# Altium footprint library LED_PcbLib1.PcbLib: 3 footprints
Each footprint in its own frame and in the unit in brackets; x right, y up, seen from the top. Pads: shape width x height; smd on the part's side, far side on the other; paste and mask are expansions set on the pad; w line width, h text height; cw(c..) or ccw(c..) is an arc to the next point about the centre after c.
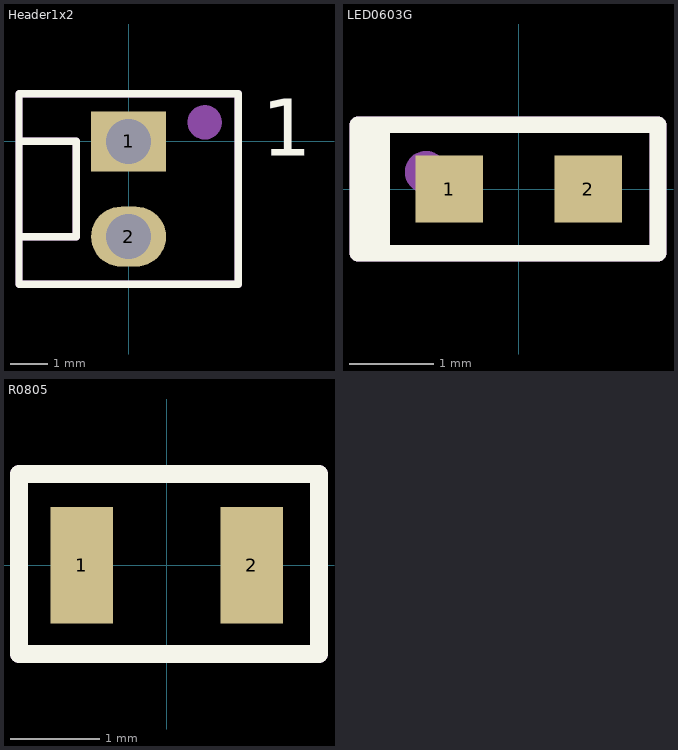
[diagram p0: the footprints below, top view; thin cyan lines are the x and y axes]

## Header1x2 [mm]
pads (2):
  rect 2x1.6 hole 1.2: 1(0,0)
  oval 2x1.6 hole 1.2: 2(0,-2.54)
Top Overlay:
  lines w0.2: -2.921,-2.54 -1.397,-2.54 -1.397,0 -2.921,0 ; -2.921,-3.81 -2.921,1.27 2.921,1.27 2.921,-3.81 -2.921,-3.81
  text "1" at 3.556,-0.381 h1.52
Mechanical 29:
  circle w0.508: c2.032,0.508 r0.203
  lines w0.2: -2.921,-2.54 -1.397,-2.54 -1.397,0 -2.921,0 ; -2.921,-3.81 -2.921,1.27 2.921,1.27 2.921,-3.81 -2.921,-3.81
  text "'.Designator'1" at -0.943,-1.94 h1.2
3D body "Connector Header 2POS.stp": height 11.07, standoff -4.19, extent -2.9,-3.81 2.9,1.27

## LED0603G [mm]
pads (2):
  rect 0.8x0.8 smd: 1(-0.825,0) 2(0.825,0)
Top Overlay:
  rectangle: -1.905,-0.762 -1.524,0.762
  lines w0.2: -1.905,-0.762 1.651,-0.762 1.651,0.762 -1.905,0.762 -1.905,-0.762
Mechanical 29:
  circle w0.3: c-1.1,0.2 r0.1
  rectangle: -1.905,-0.762 -1.524,0.762
  lines w0.2: -1.905,-0.762 1.651,-0.762 1.651,0.762 -1.905,0.762 -1.905,-0.762
  text "'.Designator'String" at -0.7,-0.367 h0.7
3D body "User Library-SMD LED 0603.step": height 0.4, standoff 0.01, extent -0.8,-0.4 0.8,0.4

## R0805 [mm]
pads (2):
  rect 0.7x1.3 smd: 1(-0.95,0) 2(0.95,0)
Top Overlay:
  lines w0.2: -1.651,-0.991 -1.651,1.016 1.7,1.016 1.7,-0.991 -1.651,-0.991
Mechanical 29:
  lines w0.2: -1.651,-0.991 -1.651,1.016 1.7,1.016 1.7,-0.991 -1.651,-0.991
  text "'.Designator'String" at -1.297,-0.302 h0.7
3D body "User Library-CR2012-0805.step": height 0.61, standoff 0.01, extent -0.984,-0.615 1.016,0.635